# Altium schematic symbol library SF12011F-0202-20R-M-050.SchLib: 1 symbol
Pins are listed as number, name and electrical type; pins without a type are passive.

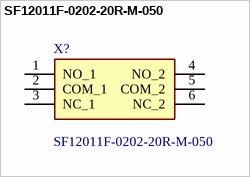
[diagram p0: symbol SF12011F-0202-20R-M-050]

## SF12011F-0202-20R-M-050
designator X?
Pushbutton Switches DPDT STOMP/FOOT SW MOM 4A30VDC 9PIN; Manufacturer_Name: Alpha (Taiwan); Geometry.Height: 33.5mm; Mouser Part Number: 107-SF12011F-M; Mouser Price/Stock: https://www.mouser.com/Search/Refine.aspx?Keyword=107-SF12011F-M; Manufacturer_Part_Number: SF12011F-0202-20R-M-050; Datasheet Link: https://componentsearchengine.com//SF12011F-0202-20R-M-050.pdf
footprint SF12011F020220RM050
pins: 1 NO_1, 2 COM_1, 3 NC_1, 4 NO_2, 5 COM_2, 6 NC_2